# EAGLE library part LM2678 (library ICs)
LM2678 SIMPLE SWITCHER® High Efficiency 5A Step-Down Voltage Regulator
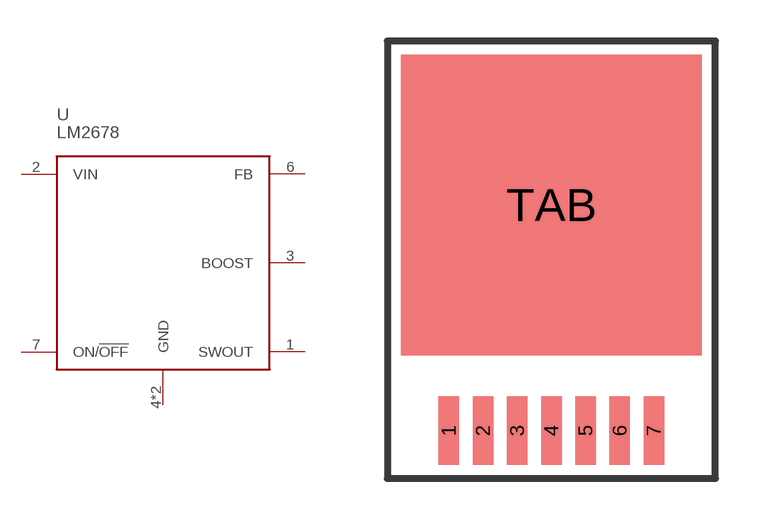
[diagram p47: symbol with the pads of TO263-7; footprint TO263-7]

Designator prefix U

## LM2678S-12 (FARNELL: 2323493)  [TO263-7]
1  SWOUT
2  VIN
3  BOOST
4  GND
6  FB
7  ON/!OFF
TAB  GND

## Footprint TO263-7 (pad centres in mm)
smd 0.75 x 2.5: 1 -3.75,-8.25; 2 -2.5,-8.25; 3 -1.25,-8.25; 4 0,-8.25; 5 1.25,-8.25; 6 2.5,-8.25; 7 3.75,-8.25
smd 11 x 11: TAB 0,0